# EAGLE library part IQS550-A000 (library C3-Azoteq)
150 Channel (15x10) Projected Capacitive Touchpad Controller
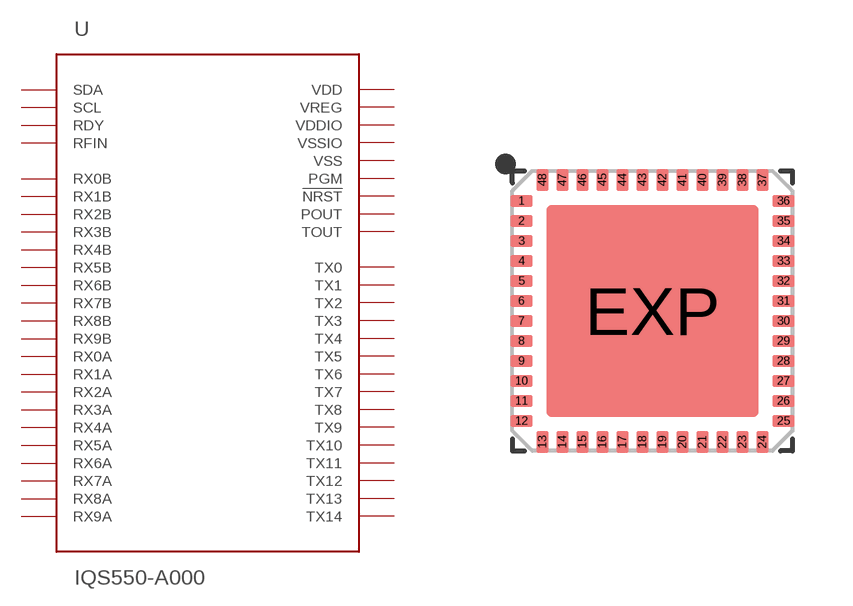
[diagram p0: symbol with the pads of QFN48; footprint QFN48]

Designator prefix U

## IQS550-A000 (PACKAGE: QFN48 (7x7))  [QFN48]
1  TX14  out
2  PGM
3  POUT  out
4  TOUT  out
5  SDA
6  SCL  in
7  VDD  pwr
8  VSS  pas
9  VREG  pwr
10  !NRST  in
11  RDY  out
12  RFIN  in
13  RX0A  in
14  RX0B  in
15  RX1A  in
16  RX1B  nc
17  RX2A  in
18  RX2B  nc
19  RX3A  in
20  RX3B  nc
21  RX4A  in
22  RX4B  nc
23  RX5A  in
24  RX5B  nc
25  RX6A  in
26  RX6B  nc
27  RX7A  in
28  RX7B  nc
29  RX8A  in
30  RX8B  nc
31  RX9A  in
32  RX9B  nc
33  TX0  out
34  TX1  out
35  TX2  out
36  TX3  out
37  VSSIO  pas
38  VDDIO  pwr
39  TX4  out
40  TX5  out
41  TX6  out
42  TX7  out
43  TX8  out
44  TX9  out
45  TX10  out
46  TX11  out
47  TX12  out
48  TX13  out
EXP  PVSS  pas

## Footprint QFN48 (pad centres in mm)
48-pin QFN 7 x 7 mm LF48 48 Quad Flat Package No Leads Source: http://v4.cypress.com/cfuploads/img/products/cywusb6934.pdf
smd 0.55 x 0.3: 1 -3.275,2.75; 2 -3.275,2.25; 3 -3.275,1.75; 4 -3.275,1.25; 5 -3.275,0.75; 6 -3.275,0.25; 7 -3.275,-0.25; 8 -3.275,-0.75; 9 -3.275,-1.25; 10 -3.275,-1.75; 11 -3.275,-2.25; 12 -3.275,-2.75; 25 3.275,-2.75; 26 3.275,-2.25; 27 3.275,-1.75; 28 3.275,-1.25; 29 3.275,-0.75; 30 3.275,-0.25; 31 3.275,0.25; 32 3.275,0.75; 33 3.275,1.25; 34 3.275,1.75; 35 3.275,2.25; 36 3.275,2.75
smd 0.3 x 0.55: 13 -2.75,-3.275; 14 -2.25,-3.275; 15 -1.75,-3.275; 16 -1.25,-3.275; 17 -0.75,-3.275; 18 -0.25,-3.275; 19 0.25,-3.275; 20 0.75,-3.275; 21 1.25,-3.275; 22 1.75,-3.275; 23 2.25,-3.275; 24 2.75,-3.275; 37 2.75,3.275; 38 2.25,3.275; 39 1.75,3.275; 40 1.25,3.275; 41 0.75,3.275; 42 0.25,3.275; 43 -0.25,3.275; 44 -0.75,3.275; 45 -1.25,3.275; 46 -1.75,3.275; 47 -2.25,3.275; 48 -2.75,3.275
smd 5.309 x 5.309: EXP 0,0